# Altium footprint library WLCSP6.PcbLib: 1 footprints
Each footprint in its own frame and in the unit in brackets; x right, y up, seen from the top. Pads: shape width x height; smd on the part's side, far side on the other; paste and mask are expansions set on the pad; w line width, h text height; cw(c..) or ccw(c..) is an arc to the next point about the centre after c.
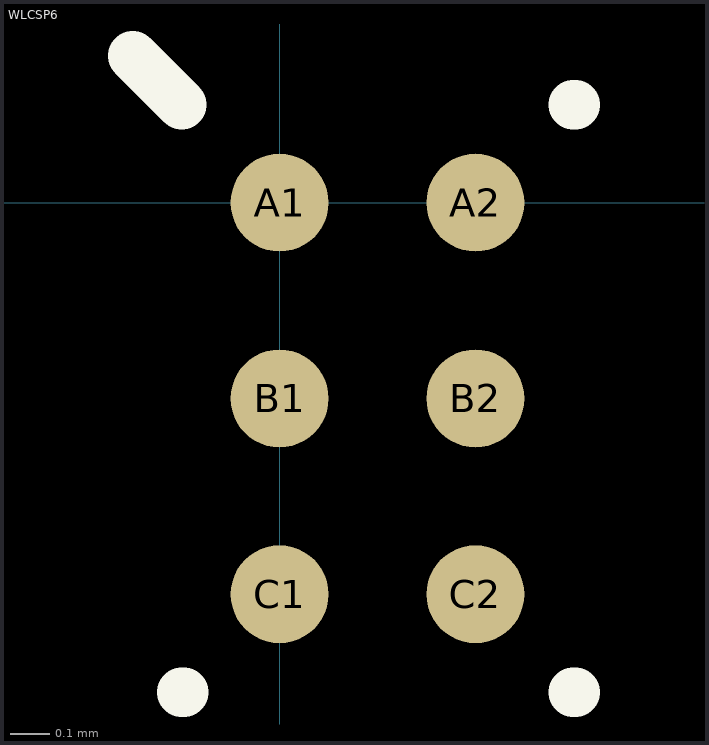
[diagram p0: the footprint, top view; thin cyan lines are the x and y axes]

## WLCSP6 [mm]
pads (6):
  round 0.25 smd mask+0.05: A1(0,0) A2(0.5,0) B1(0,-0.5) B2(0.5,-0.5) C1(0,-1) C2(0.5,-1)
Top Overlay:
  lines w0.127: -0.375,0.375 -0.25,0.25 ; -0.25,-1.25 -0.245,-1.25 ; 0.75,-1.25 0.755,-1.25 ; 0.75,0.25 0.755,0.25
3D body: height 0.58, standoff 0.25, extent -0.25,-1.25 0.75,0.25